# EAGLE library part AS-ITM-00292 (library tinycircuits)
SMART MODULE ATWINC1500B-MU-T
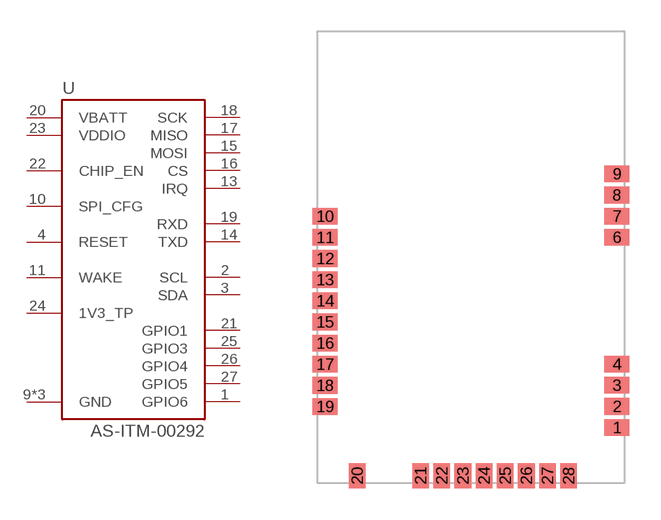
[diagram p114: symbol with the pads of ATWINC1500-MR210PB; footprint ATWINC1500-MR210PB]

Designator prefix U

## AS-ITM-00292 (PARTNO: AS-ITM-00292; VALUE: ATWINC1500-MR210PB)  [ATWINC1500-MR210PB]
1  GPIO6
2  SCL
3  SDA
4  RESET
9  GND
10  SPI_CFG
11  WAKE
12  GND
13  IRQ
14  TXD
15  MOSI
16  CS
17  MISO
18  SCK
19  RXD
20  VBATT
21  GPIO1
22  CHIP_EN
23  VDDIO
24  1V3_TP
25  GPIO3
26  GPIO4
27  GPIO5
28  GND

## Footprint ATWINC1500-MR210PB (pad centres in mm)
smd 1.2 x 0.8: 1 7.015,-8.19; 2 7.015,-7.174; 3 7.015,-6.158; 4 7.015,-5.142; 6 7.015,0.954; 7 7.015,1.97; 8 7.015,2.986; 9 7.015,4.002; 10 -7.015,1.964; 11 -7.015,0.948; 12 -7.015,-0.068; 13 -7.015,-1.084; 14 -7.015,-2.1; 15 -7.015,-3.116; 16 -7.015,-4.132; 17 -7.015,-5.148; 18 -7.015,-6.164; 19 -7.015,-7.18
smd 0.8 x 1.2: 20 -5.465,-10.51; 21 -2.417,-10.51; 22 -1.401,-10.51; 23 -0.385,-10.51; 24 0.631,-10.51; 25 1.647,-10.51; 26 2.663,-10.51; 27 3.679,-10.51; 28 4.695,-10.51